# EAGLE library part 5-1571999-6 (library Switches)
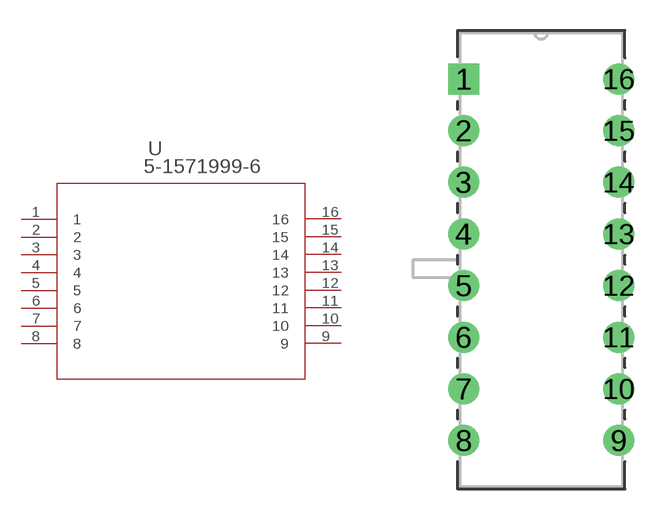
[diagram p43: symbol with the pads of SWITCH_5-1571999-6; footprint SWITCH_5-1571999-6]

Designator prefix U

## 5-1571999-6 (BUILT_BY: EMA_UL_Team; CATEGORY: DIP & SIP Switches; COPYRIGHT: Copyright (C) 2016 Accelerated Designs. All rights reserved; DESCRIPTION: ADPA0804=PIANO DIP SWITCH; MANUFACTURER_PART_NUMBER: 5-1571999-6; PART_STATUS: active; SERIES: Alcoswitch ADP; VENDOR: TE Connectivity)  [SWITCH_5-1571999-6]
1  1  pas
2  2  pas
3  3  pas
4  4  pas
5  5  pas
6  6  pas
7  7  pas
8  8  pas
9  9  pas
10  10  pas
11  11  pas
12  12  pas
13  13  pas
14  14  pas
15  15  pas
16  16  pas

## Footprint SWITCH_5-1571999-6 (pad centres in mm)
drill 1.016 pad 1.524 square: 1 -7.62,17.78
drill 1.016 pad 1.524: 2 -7.62,15.24; 3 -7.62,12.7; 4 -7.62,10.16; 5 -7.62,7.62; 6 -7.62,5.08; 7 -7.62,2.54; 8 -7.62,0; 9 0,0; 10 0,2.54; 11 0,5.08; 12 0,7.62; 13 0,10.16; 14 0,12.7; 15 0,15.24; 16 0,17.78